# EAGLE library part DS1390 (library automaton)
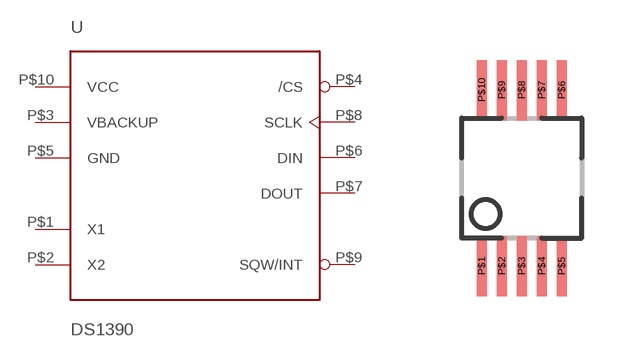
[diagram p2: symbol with the pads of MAXIM_10USOP; footprint MAXIM_10USOP]

Designator prefix -

## DS1390USOP  [MAXIM_10USOP]
P$1  X1
P$2  X2
P$3  VBACKUP  pwr
P$4  /CS  in
P$5  GND  pwr
P$6  DIN  in
P$7  DOUT  out
P$8  SCLK  in
P$9  SQW/INT  out
P$10  VCC  pwr

## Footprint MAXIM_10USOP (pad centres in mm)
smd 0.25 x 1.5: P$1 -1,-2.2; P$2 -0.5,-2.2; P$3 0,-2.2; P$4 0.5,-2.2; P$5 1,-2.2; P$6 1,2.2; P$7 0.5,2.2; P$8 0,2.2; P$9 -0.5,2.2; P$10 -1,2.2